# Altium schematic symbol library ISL6236A_DEMO.SchLib: 20 symbols (part 2 of 2)
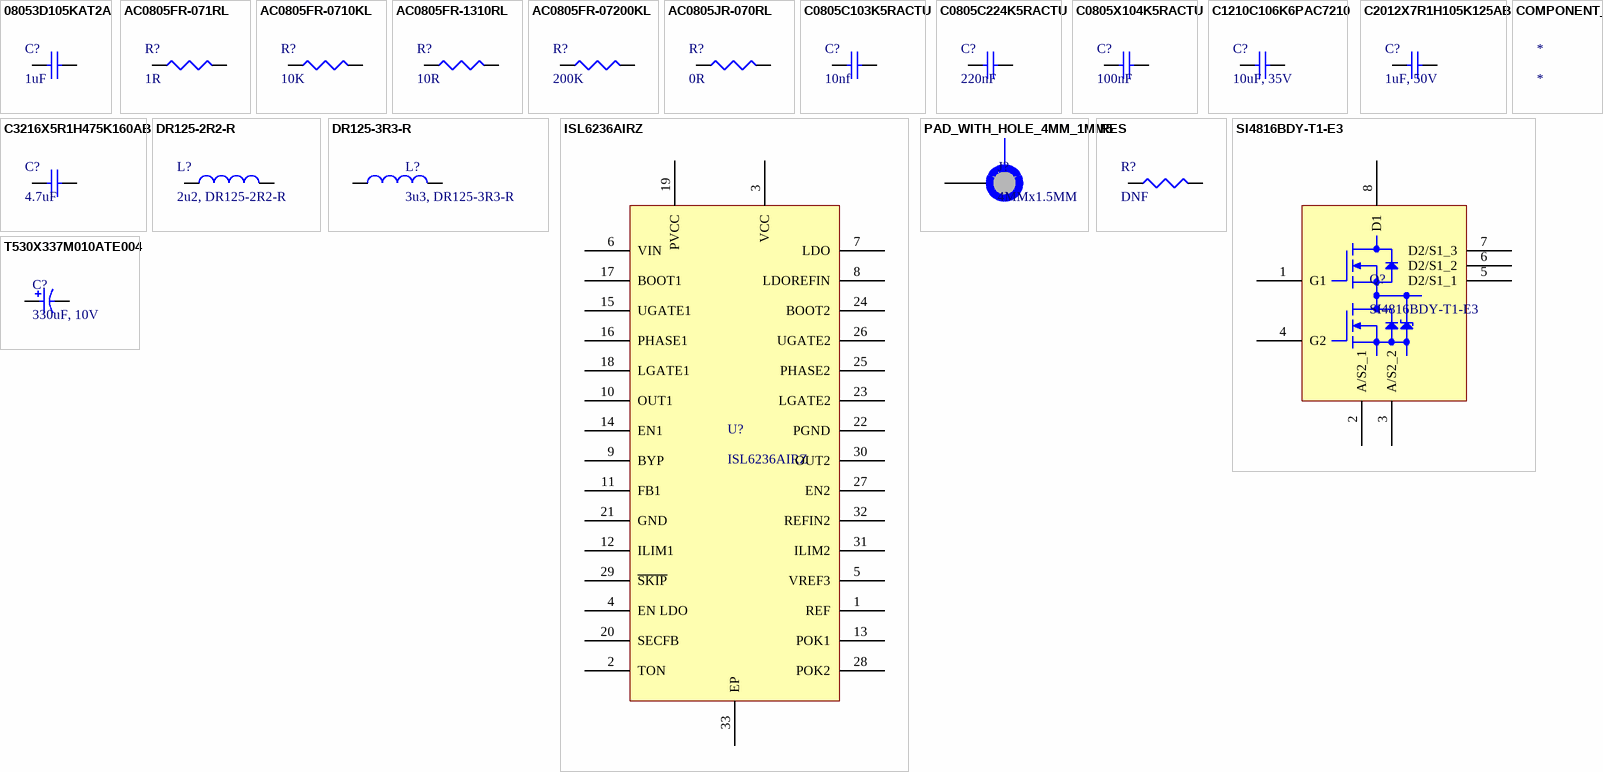
[diagram p1: symbols 08053D105KAT2A to T530X337M010ATE004]

## C0805C224K5RACTU
designator C?, comment 220nF
50V 220nF X7R ±10% 0805 Multilayer Ceramic Capacitors MLCC - SMD/SMT ROHS; Manufacturer: Yageo Group; Manufacturer Part Number: C0805C224K5RACTU; Dissipation Factor: 2.5%; Temperature Coefficient: 30ppm/°C; Supplier: DigiKey; Supplier Part Number: 399-C0805C224K5RACTUCT-ND; RoHS: Compliant; Category: Ceramic Capacitors; Stock: 396277; Pricing: 1=0.22, 10=0.127, 50=0.0906, 100=0.0795, 500=0.06094, 1000=0.05521 (USD); Value: 220nF; Case/Package: 0805; Case Code (Imperial): 0805; China RoHS: Compliant; Country of Origin: Mainland China, Taiwan; Depth: 1.25mm; Dielectric: X7R; Dielectric Material: Ceramic; Export Control Classification Number (ECCN) Code: EAR99; Height: 1.25mm; Harmonized Tariff Schedule (HTS) Code: 8532.24.00.20; Introduction Date: 2011-08-12; Lead Free: Lead Free; Lead Pitch: 750µm; Length: 2mm; Lifecycle Status: Production; Material: Ceramic; Max Operating Temperature: 125°C; Min Operating Temperature: -55°C; Mounting Technology: Surface Mount; Pins: 2; Number of Terminals: 2; Packaging: Cut Tape; Radiation Hardening: No; REACH SVHC: Yes; Schedule B: 8532240020, 8532240020|8532240020, 8532240020|8532240020|8532240020, 8532240020|8532240020|8532240020|8532240020; Termination: SMD/SMT; Thickness: 1.397mm; Tolerance: 10%; Voltage: 50V; Voltage Rating: 50V; Voltage Rating (DC): 50V; Width: 1.25mm; ComponentLink1URL: https://datasheet.octopart.com:443/C0805C224K5RACTU-KEMET-datasheet-178445679.pdf?src-supplier=IHS; ComponentLink1Description: https://datasheet.octopart.com:443/C0805C224K5RACTU-KEMET-datasheet-178445679.pdf?src-supplier=IHS; ComponentLink2URL: https://datasheet.octopart.com:443/C0805C224K5RAC7800-KEMET-datasheet-184793319.pdf?src-supplier=IHS; ComponentLink2Description: https://datasheet.octopart.com:443/C0805C224K5RAC7800-KEMET-datasheet-184793319.pdf?src-supplier=IHS; ComponentLink3URL: https://datasheet.octopart.com:443/C0805C224K5RACTU-Kemet-datasheet-5313890.pdf?src-supplier=Upverter; ComponentLink3Description: https://datasheet.octopart.com:443/C0805C224K5RACTU-Kemet-datasheet-5313890.pdf?src-supplier=Upverter; ComponentLink4URL: https://datasheet.octopart.com:443/C0805C224K5RACTU-KEMET-datasheet-68331921.pdf?src-supplier=Upverter; ComponentLink4Description: https://datasheet.octopart.com:443/C0805C224K5RACTU-KEMET-datasheet-68331921.pdf?src-supplier=Upverter; ComponentLink5URL: https://datasheet.octopart.com:443/C0805C224K5RACTU-KEMET-datasheet-137357759.pdf?src-supplier=Farnell; ComponentLink5Description: https://datasheet.octopart.com:443/C0805C224K5RACTU-KEMET-datasheet-137357759.pdf?src-supplier=Farnell; ComponentLink6URL: https://datasheet.octopart.com:443/C0805C224K5RACTU-Kemet-datasheet-12608295.pdf?src-supplier=Farnell; ComponentLink6Description: https://datasheet.octopart.com:443/C0805C224K5RACTU-Kemet-datasheet-12608295.pdf?src-supplier=Farnell; ComponentLink7URL: https://datasheet.octopart.com:443/C0805C224K5RACTU-Kemet-datasheet-11992184.pdf?src-supplier=Farnell; ComponentLink7Description: https://datasheet.octopart.com:443/C0805C224K5RACTU-Kemet-datasheet-11992184.pdf?src-supplier=Farnell; ComponentLink8URL: https://datasheet.octopart.com:443/C0805C224K5RACTU-Kemet-datasheet-10942409.pdf?src-supplier=Farnell; ComponentLink8Description: https://datasheet.octopart.com:443/C0805C224K5RACTU-Kemet-datasheet-10942409.pdf?src-supplier=Farnell; ComponentLink9URL: https://datasheet.octopart.com:443/C0805C224K5RACTU-Kemet-datasheet-10404442.pdf?src-supplier=Farnell; ComponentLink9Description: https://datasheet.octopart.com:443/C0805C224K5RACTU-Kemet-datasheet-10404442.pdf?src-supplier=Farnell; ComponentLink10URL: https://datasheet.octopart.com:443/C0805C224K5RACTU-KEMET-datasheet-101576247.pdf?src-supplier=Farnell; ComponentLink10Description: https://datasheet.octopart.com:443/C0805C224K5RACTU-KEMET-datasheet-101576247.pdf?src-supplier=Farnell; ComponentLink11URL: https://datasheet.octopart.com:443/C0805C224K5RACTU-KEMET-datasheet-176142328.pdf?src-supplier=Farnell; ComponentLink11Description: https://datasheet.octopart.com:443/C0805C224K5RACTU-KEMET-datasheet-176142328.pdf?src-supplier=Farnell; ComponentLink12URL: https://datasheet.octopart.com:443/C0805C224K5RACTU-Kemet-datasheet-503297.pdf?src-supplier=Farnell; ComponentLink12Description: https://datasheet.octopart.com:443/C0805C224K5RACTU-Kemet-datasheet-503297.pdf?src-supplier=Farnell; ComponentLink13URL: https://datasheet.octopart.com:443/C0805C224K5RACTU-KEMET-datasheet-32036385.pdf?src-supplier=Electro+Sonic; ComponentLink13Description: https://datasheet.octopart.com:443/C0805C224K5RACTU-KEMET-datasheet-32036385.pdf?src-supplier=Electro+Sonic; ComponentLink14URL: https://datasheet.octopart.com:443/C0805C224K5RACTU-KEMET-datasheet-176289652.pdf?src-supplier=Newark; ComponentLink14Description: https://datasheet.octopart.com:443/C0805C224K5RACTU-KEMET-datasheet-176289652.pdf?src-supplier=Newark; ComponentLink15URL: https://datasheet.octopart.com:443/C0805C224K5RACTU-KEMET-datasheet-130256537.pdf?src-supplier=Newark; ComponentLink15Description: https://datasheet.octopart.com:443/C0805C224K5RACTU-KEMET-datasheet-130256537.pdf?src-supplier=Newark; ComponentLink16URL: https://datasheet.octopart.com:443/C0805C224K5RACTU-Kemet-datasheet-8764837.pdf?src-supplier=Newark; ComponentLink16Description: https://datasheet.octopart.com:443/C0805C224K5RACTU-Kemet-datasheet-8764837.pdf?src-supplier=Newark; ComponentLink17URL: https://datasheet.octopart.com:443/C0805C224K5RACTU-Kemet-datasheet-8480123.pdf?src-supplier=Newark; ComponentLink17Description: https://datasheet.octopart.com:443/C0805C224K5RACTU-Kemet-datasheet-8480123.pdf?src-supplier=Newark; ComponentLink18URL: https://datasheet.octopart.com:443/C0805C224K5RACTU-Kemet-datasheet-5390537.pdf?src-supplier=Newark; ComponentLink18Description: https://datasheet.octopart.com:443/C0805C224K5RACTU-Kemet-datasheet-5390537.pdf?src-supplier=Newark; ComponentLink19URL: https://datasheet.octopart.com:443/C0805C224K5RACTU-Kemet-datasheet-5393970.pdf?src-supplier=Newark; ComponentLink19Description: https://datasheet.octopart.com:443/C0805C224K5RACTU-Kemet-datasheet-5393970.pdf?src-supplier=Newark; ComponentLink20URL: https://datasheet.octopart.com:443/C0805C224K5RACTU-Kemet-datasheet-8502025.pdf?src-supplier=Newark; ComponentLink20Description: https://datasheet.octopart.com:443/C0805C224K5RACTU-Kemet-datasheet-8502025.pdf?src-supplier=Newark; ComponentLink21URL: https://datasheet.octopart.com:443/C0805C224K5RACTU-Kemet-datasheet-7541751.pdf?src-supplier=Newark; ComponentLink21Description: https://datasheet.octopart.com:443/C0805C224K5RACTU-Kemet-datasheet-7541751.pdf?src-supplier=Newark; ComponentLink22URL: https://datasheet.octopart.com:443/C0805C224K5RACTU-Kemet-datasheet-161801.pdf?src-supplier=Newark; ComponentLink22Description: https://datasheet.octopart.com:443/C0805C224K5RACTU-Kemet-datasheet-161801.pdf?src-supplier=Newark; ComponentLink23URL: https://datasheet.octopart.com:443/C0805C224K5RACTU-KEMET-datasheet-164512540.pdf?src-supplier=TME; ComponentLink23Description: https://datasheet.octopart.com:443/C0805C224K5RACTU-KEMET-datasheet-164512540.pdf?src-supplier=TME; ComponentLink24URL: https://datasheet.octopart.com:443/C0805C224K5RACTU-KEMET-datasheet-68299312.pdf?src-supplier=TME; ComponentLink24Description: https://datasheet.octopart.com:443/C0805C224K5RACTU-KEMET-datasheet-68299312.pdf?src-supplier=TME; ComponentLink25URL: https://datasheet.octopart.com:443/C0805C224K5RACTU-KEMET-datasheet-68331906.pdf?src-supplier=TME; ComponentLink25Description: https://datasheet.octopart.com:443/C0805C224K5RACTU-KEMET-datasheet-68331906.pdf?src-supplier=TME; ComponentLink26URL: https://datasheet.octopart.com:443/C0805C224K5RAC7800-Kemet-datasheet-62098571.pdf?src-supplier=TME; ComponentLink26Description: https://datasheet.octopart.com:443/C0805C224K5RAC7800-Kemet-datasheet-62098571.pdf?src-supplier=TME; ComponentLink27URL: https://datasheet.octopart.com:443/C0805C224K5RAC7800-Kemet-datasheet-17577222.pdf?src-supplier=TME; ComponentLink27Description: https://datasheet.octopart.com:443/C0805C224K5RAC7800-Kemet-datasheet-17577222.pdf?src-supplier=TME; ComponentLink28URL: https://datasheet.octopart.com:443/C0805C224K5RACTU-KEMET-datasheet-110724412.pdf?src-supplier=RS+(Formerly+Allied+Electronics); ComponentLink28Description: https://datasheet.octopart.com:443/C0805C224K5RACTU-KEMET-datasheet-110724412.pdf?src-supplier=RS+(Formerly+Allied+Electronics); ComponentLink29URL: https://datasheet.octopart.com:443/C0805C224K5RACTU-Kemet-datasheet-464.pdf?src-supplier=RS+(Formerly+Allied+Electronics); ComponentLink29Description: https://datasheet.octopart.com:443/C0805C224K5RACTU-Kemet-datasheet-464.pdf?src-supplier=RS+(Formerly+Allied+Electronics); ComponentLink30URL: https://datasheet.octopart.com/C0805C224K5RACTU-KEMET-datasheet-84169754.pdf; ComponentLink30Description: https://datasheet.octopart.com/C0805C224K5RACTU-KEMET-datasheet-84169754.pdf; ComponentLink31URL: https://datasheet.octopart.com:443/C0805C224K5RACTU-Kemet-datasheet-22084244.pdf?src-supplier=element14+APAC; ComponentLink31Description: https://datasheet.octopart.com:443/C0805C224K5RACTU-Kemet-datasheet-22084244.pdf?src-supplier=element14+APAC; ComponentLink32URL: https://datasheet.octopart.com:443/C0805C224K5RACTU-Kemet-datasheet-11546808.pdf?src-supplier=Arrow+Electronics; ComponentLink32Description: https://datasheet.octopart.com:443/C0805C224K5RACTU-Kemet-datasheet-11546808.pdf?src-supplier=Arrow+Electronics; ComponentLink33URL: https://datasheet.octopart.com:443/C0805C224K5RAC7800-KEMET-datasheet-164857143.pdf?src-supplier=Burklin+Elektronik; ComponentLink33Description: https://datasheet.octopart.com:443/C0805C224K5RAC7800-KEMET-datasheet-164857143.pdf?src-supplier=Burklin+Elektronik; ComponentLink34URL: http://sigma.octopart.com:80/conflict_mineral_statement/Yageo-company-3.pdf?src-supplier=Compliance+Statements; ComponentLink34Description: http://sigma.octopart.com:80/conflict_mineral_statement/Yageo-company-3.pdf?src-supplier=Compliance+Statements; ComponentLink35URL: http://sigma.octopart.com:80/rohs_statement/Yageo-company-2.pdf?src-supplier=Compliance+Statements; ComponentLink35Description: http://sigma.octopart.com:80/rohs_statement/Yageo-company-2.pdf?src-supplier=Compliance+Statements
footprint C0805
pins: 1, 2

## C0805X104K5RACTU
designator C?, comment 100nF
Cap Ceramic 0.1uF 50V X7R 10% Pad SMD 0805 Flexible Termination 125C Automotive Medical T/R; Manufacturer: Yageo Group; Manufacturer Part Number: C0805X104K5RACTU; Manufacturer Package Identifier: 0805 (2012 metric); Dissipation Factor: 2.5%; Supplier: DigiKey; Supplier Part Number: 399-C0805X104K5RACTUCT-ND; RoHS: Compliant; Category: Ceramic Capacitors; Stock: 78001; Pricing: 1=0.37, 10=0.223, 50=0.1638, 100=0.1456, 500=0.11516, 1000=0.10575 (USD); Value: 100nF; Case/Package: 0805; Case Code (Imperial): 0805; Case Code (Metric): 2012; China RoHS: Compliant; Depth: 1.25mm; Dielectric: X7R; Dielectric Material: Ceramic; Export Control Classification Number (ECCN) Code: EAR99; Features: Soft Termination; Height: 780µm; Harmonized Tariff Schedule (HTS) Code: 8532.24.00.20; Introduction Date: 2016-01-11; Length: 2mm; Lifecycle Status: Production; Max Operating Temperature: 125°C; Min Operating Temperature: -55°C; Mounting Technology: Surface Mount; Pins: 2; Number of Terminals: 2; Packaging: Cut Tape; REACH SVHC: Yes; Schedule B: 8532240020, 8532240020|8532240020, 8532240020|8532240020|8532240020, 8532240020|8532240020|8532240020|8532240020; Termination: SMD/SMT; Thickness: 889µm; Tolerance: 10%; Voltage Rating: 50V; Voltage Rating (AC): 50V; Voltage Rating (DC): 50V; Width: 1.25mm; ComponentLink1URL: https://datasheet.octopart.com:443/C0805X104K5RACTU-KEMET-datasheet-182040354.pdf?src-supplier=IHS; ComponentLink1Description: https://datasheet.octopart.com:443/C0805X104K5RACTU-KEMET-datasheet-182040354.pdf?src-supplier=IHS; ComponentLink2URL: https://datasheet.octopart.com:443/C0805X104K5RACTU-Kemet-datasheet-498967.pdf?src-supplier=Newark; ComponentLink2Description: https://datasheet.octopart.com:443/C0805X104K5RACTU-Kemet-datasheet-498967.pdf?src-supplier=Newark; ComponentLink3URL: https://datasheet.octopart.com:443/C0805X104K5RACTU-Kemet-datasheet-8764837.pdf?src-supplier=Newark; ComponentLink3Description: https://datasheet.octopart.com:443/C0805X104K5RACTU-Kemet-datasheet-8764837.pdf?src-supplier=Newark; ComponentLink4URL: https://datasheet.octopart.com:443/C0805X104K5RACTU-Kemet-datasheet-8480123.pdf?src-supplier=Newark; ComponentLink4Description: https://datasheet.octopart.com:443/C0805X104K5RACTU-Kemet-datasheet-8480123.pdf?src-supplier=Newark; ComponentLink5URL: https://datasheet.octopart.com:443/C0805X104K5RACTU-Kemet-datasheet-5313890.pdf?src-supplier=Newark; ComponentLink5Description: https://datasheet.octopart.com:443/C0805X104K5RACTU-Kemet-datasheet-5313890.pdf?src-supplier=Newark; ComponentLink6URL: https://datasheet.octopart.com:443/C0805X104K5RACTU-Kemet-datasheet-5390537.pdf?src-supplier=Newark; ComponentLink6Description: https://datasheet.octopart.com:443/C0805X104K5RACTU-Kemet-datasheet-5390537.pdf?src-supplier=Newark; ComponentLink7URL: https://datasheet.octopart.com:443/C0805X104K5RACTU-Kemet-datasheet-5393970.pdf?src-supplier=Newark; ComponentLink7Description: https://datasheet.octopart.com:443/C0805X104K5RACTU-Kemet-datasheet-5393970.pdf?src-supplier=Newark; ComponentLink8URL: https://datasheet.octopart.com:443/C0805X104K5RACTU-Kemet-datasheet-8502025.pdf?src-supplier=Newark; ComponentLink8Description: https://datasheet.octopart.com:443/C0805X104K5RACTU-Kemet-datasheet-8502025.pdf?src-supplier=Newark; ComponentLink9URL: https://datasheet.octopart.com:443/C0805X104K5RACTU-Kemet-datasheet-7541751.pdf?src-supplier=Newark; ComponentLink9Description: https://datasheet.octopart.com:443/C0805X104K5RACTU-Kemet-datasheet-7541751.pdf?src-supplier=Newark; ComponentLink10URL: https://datasheet.octopart.com:443/C0805X104K5RACTU-Kemet-datasheet-161801.pdf?src-supplier=Newark; ComponentLink10Description: https://datasheet.octopart.com:443/C0805X104K5RACTU-Kemet-datasheet-161801.pdf?src-supplier=Newark; ComponentLink11URL: https://datasheet.octopart.com:443/C0805X104K5RACTU-KEMET-datasheet-176142390.pdf?src-supplier=Newark; ComponentLink11Description: https://datasheet.octopart.com:443/C0805X104K5RACTU-KEMET-datasheet-176142390.pdf?src-supplier=Newark; ComponentLink12URL: https://datasheet.octopart.com:443/C0805X104K5RACTU-KEMET-datasheet-181958278.pdf?src-supplier=Farnell; ComponentLink12Description: https://datasheet.octopart.com:443/C0805X104K5RACTU-KEMET-datasheet-181958278.pdf?src-supplier=Farnell; ComponentLink13URL: https://datasheet.octopart.com:443/C0805X104K5RACTU-KEMET-datasheet-181958277.pdf?src-supplier=Farnell; ComponentLink13Description: https://datasheet.octopart.com:443/C0805X104K5RACTU-KEMET-datasheet-181958277.pdf?src-supplier=Farnell; ComponentLink14URL: https://datasheet.octopart.com:443/C0805X104K5RACTU-KEMET-datasheet-101576457.pdf?src-supplier=Farnell; ComponentLink14Description: https://datasheet.octopart.com:443/C0805X104K5RACTU-KEMET-datasheet-101576457.pdf?src-supplier=Farnell; ComponentLink15URL: https://datasheet.octopart.com:443/C0805X104K5RACTU-KEMET-datasheet-175423158.pdf?src-supplier=Farnell; ComponentLink15Description: https://datasheet.octopart.com:443/C0805X104K5RACTU-KEMET-datasheet-175423158.pdf?src-supplier=Farnell; ComponentLink16URL: https://datasheet.octopart.com:443/C0805X104K5RACTU-Kemet-datasheet-66093367.pdf?src-supplier=element14+APAC; ComponentLink16Description: https://datasheet.octopart.com:443/C0805X104K5RACTU-Kemet-datasheet-66093367.pdf?src-supplier=element14+APAC; ComponentLink17URL: https://datasheet.octopart.com:443/C0805X104K5RACTU-KEMET-datasheet-81638493.pdf?src-supplier=element14+APAC; ComponentLink17Description: https://datasheet.octopart.com:443/C0805X104K5RACTU-KEMET-datasheet-81638493.pdf?src-supplier=element14+APAC; ComponentLink18URL: https://datasheet.octopart.com:443/C0805X104K5RACTU-Kemet-datasheet-67167355.pdf?src-supplier=element14+APAC; ComponentLink18Description: https://datasheet.octopart.com:443/C0805X104K5RACTU-Kemet-datasheet-67167355.pdf?src-supplier=element14+APAC; ComponentLink19URL: https://datasheet.octopart.com:443/C0805X104K5RACTU-KEMET-datasheet-192294609.pdf?src-supplier=element14+APAC; ComponentLink19Description: https://datasheet.octopart.com:443/C0805X104K5RACTU-KEMET-datasheet-192294609.pdf?src-supplier=element14+APAC; ComponentLink20URL: https://datasheet.octopart.com:443/C0805X104K5RACTU-KEMET-datasheet-142166354.pdf?src-supplier=Electro+Sonic; ComponentLink20Description: https://datasheet.octopart.com:443/C0805X104K5RACTU-KEMET-datasheet-142166354.pdf?src-supplier=Electro+Sonic; ComponentLink21URL: https://datasheet.octopart.com:443/C0805X104K5RACTU-KEMET-datasheet-68331963.pdf?src-supplier=TME; ComponentLink21Description: https://datasheet.octopart.com:443/C0805X104K5RACTU-KEMET-datasheet-68331963.pdf?src-supplier=TME; ComponentLink22URL: https://datasheet.octopart.com:443/C0805X104K5RACTU-KEMET-datasheet-68322508.pdf?src-supplier=TME; ComponentLink22Description: https://datasheet.octopart.com:443/C0805X104K5RACTU-KEMET-datasheet-68322508.pdf?src-supplier=TME; ComponentLink23URL: https://datasheet.octopart.com/C0805X104K5RACTU-KEMET-datasheet-84169754.pdf; ComponentLink23Description: https://datasheet.octopart.com/C0805X104K5RACTU-KEMET-datasheet-84169754.pdf; ComponentLink24URL: https://datasheet.octopart.com:443/C0805X104K5RACTU-Kemet-datasheet-8837965.pdf?src-supplier=element14; ComponentLink24Description: https://datasheet.octopart.com:443/C0805X104K5RACTU-Kemet-datasheet-8837965.pdf?src-supplier=element14
footprint C0805
pins: 1, 2

## C1210C106K6PAC7210
designator C?, comment 10uF, 35V
Ceramic Capacitor, Multilayer, Ceramic, 35V, 10% +Tol, 10% -Tol, X5R, 15% TC, 10uF, Surface Mount, 1210; Manufacturer: Yageo Group; Manufacturer Part Number: C1210C106K6PAC7210; Value: 10µF; Supplier: DigiKey; Supplier Part Number: 399-C1210C106K6PAC7210CT-ND; RoHS: Compliant; Category: Ceramic Capacitors; Stock: 7885; Pricing: 1=0.82, 10=0.514, 50=0.3946, 100=0.3578, 500=0.29584, 1000=0.27668 (USD); Case/Package: 1210; China RoHS: Compliant; Country of Origin: Mexico; Dielectric: X5R; Dielectric Material: Ceramic; Export Control Classification Number (ECCN) Code: EAR99; Height: 1.9mm; Harmonized Tariff Schedule (HTS) Code: 8532.24.00.20; Introduction Date: 2016-03-30; Lead Free: Lead Free; Length: 3.2mm; Lifecycle Status: Production; Max Operating Temperature: 85°C; Min Operating Temperature: -55°C; Mounting Technology: Surface Mount; Number of Terminals: 2; REACH SVHC: Yes; Tolerance: 10%; Voltage Rating (DC): 35V; Width: 2.5mm; ComponentLink1URL: https://datasheet.octopart.com:443/C1210C106K6PAC7210-KEMET-datasheet-178499189.pdf?src-supplier=IHS; ComponentLink1Description: https://datasheet.octopart.com:443/C1210C106K6PAC7210-KEMET-datasheet-178499189.pdf?src-supplier=IHS; ComponentLink2URL: https://datasheet.octopart.com/C1210C106K6PAC7210-KEMET-datasheet-84169754.pdf; ComponentLink2Description: https://datasheet.octopart.com/C1210C106K6PAC7210-KEMET-datasheet-84169754.pdf
pins: 1, 2

## C2012X7R1H105K125AB
designator C?, comment 1uF, 50V
C Series 0805 1 uF 50 V ±10% Tolerance X7R SMT Multilayer Ceramic Capacitor; Manufacturer: TDK; Manufacturer Part Number: C2012X7R1H105K125AB; Manufacturer Lifecycle Status: PRODUCTION; Manufacturer Package Identifier: 0805 (2012 metric); Value: 1µF; Supplier: DigiKey; Supplier Part Number: 445-7547-1-ND; RoHS: Compliant; Category: Ceramic Capacitors; Stock: 33882; Pricing: 1=0.27, 10=0.158, 50=0.1146, 100=0.1011, 500=0.07844, 1000=0.07145 (USD); Case/Package: 0805; Case Code (Imperial): 0805; Case Code (Metric): 2012; China RoHS: Compliant; Composition: Ceramic; Depth: 1.25mm; Dielectric: X7R; Dielectric Material: Ceramic; Height: 1.25mm; Lead Free: Lead Free; Length: 2mm; Lifecycle Status: Production; Material: Ceramic; Max Length: 2.2mm; Max Operating Temperature: 125°C; Max Width: 1.45mm; Min Length: 1.8mm; Min Operating Temperature: -55°C; Min Width: 1.05mm; Mounting Technology: Surface Mount; Pins: 2; Number of Terminals: 2; Radiation Hardening: No; REACH SVHC: Yes; Schedule B: 8532240020, 8532240020|8532240020|8532240020|8532240020|8532240020; Termination: SMD/SMT; Tolerance: 10%; Voltage Rating: 50V; Voltage Rating (DC): 50V; Weight: 5.499807mg; Width: 1.25mm; ComponentLink1URL: https://datasheet.octopart.com:443/C2012X7R1H105K125AB-TDK-datasheet-175423548.pdf?src-supplier=TME; ComponentLink1Description: https://datasheet.octopart.com:443/C2012X7R1H105K125AB-TDK-datasheet-175423548.pdf?src-supplier=TME; ComponentLink2URL: https://datasheet.octopart.com:443/C2012X7R1H105K125AB-TDK-datasheet-182135025.pdf?src-supplier=TME; ComponentLink2Description: https://datasheet.octopart.com:443/C2012X7R1H105K125AB-TDK-datasheet-182135025.pdf?src-supplier=TME; ComponentLink3URL: https://datasheet.octopart.com:443/C2012X7R1H105K125AB-TDK-datasheet-159617022.pdf?src-supplier=TME; ComponentLink3Description: https://datasheet.octopart.com:443/C2012X7R1H105K125AB-TDK-datasheet-159617022.pdf?src-supplier=TME; ComponentLink4URL: https://datasheet.octopart.com:443/C2012X7R1H105K125AB-TDK-datasheet-151546523.pdf?src-supplier=ODG+(Origin+Data+Global); ComponentLink4Description: https://datasheet.octopart.com:443/C2012X7R1H105K125AB-TDK-datasheet-151546523.pdf?src-supplier=ODG+(Origin+Data+Global); ComponentLink5URL: https://datasheet.octopart.com/C2012X7R1H105K125AB-TDK-datasheet-41194876.pdf; ComponentLink5Description: https://datasheet.octopart.com/C2012X7R1H105K125AB-TDK-datasheet-41194876.pdf; ComponentLink6URL: https://datasheet.octopart.com:443/C2012X7R1H105K125AB-TDK-datasheet-82475248.pdf?src-supplier=Newark; ComponentLink6Description: https://datasheet.octopart.com:443/C2012X7R1H105K125AB-TDK-datasheet-82475248.pdf?src-supplier=Newark; ComponentLink7URL: https://datasheet.octopart.com:443/C2012X7R1H105K125AB-TDK-datasheet-23766614.pdf?src-supplier=Newark; ComponentLink7Description: https://datasheet.octopart.com:443/C2012X7R1H105K125AB-TDK-datasheet-23766614.pdf?src-supplier=Newark; ComponentLink8URL: https://datasheet.octopart.com:443/C2012X7R1H105K125AB-TDK-datasheet-13444418.pdf?src-supplier=Newark; ComponentLink8Description: https://datasheet.octopart.com:443/C2012X7R1H105K125AB-TDK-datasheet-13444418.pdf?src-supplier=Newark; ComponentLink9URL: https://datasheet.octopart.com:443/C2012X7R1H105K125AB-TDK-datasheet-13376850.pdf?src-supplier=Newark; ComponentLink9Description: https://datasheet.octopart.com:443/C2012X7R1H105K125AB-TDK-datasheet-13376850.pdf?src-supplier=Newark; ComponentLink10URL: https://datasheet.octopart.com:443/C2012X7R1H105K125AB-TDK-datasheet-10978788.pdf?src-supplier=Newark; ComponentLink10Description: https://datasheet.octopart.com:443/C2012X7R1H105K125AB-TDK-datasheet-10978788.pdf?src-supplier=Newark; ComponentLink11URL: https://datasheet.octopart.com:443/C2012X7R1H105K125AB-TDK-datasheet-43729314.pdf?src-supplier=Electro+Sonic; ComponentLink11Description: https://datasheet.octopart.com:443/C2012X7R1H105K125AB-TDK-datasheet-43729314.pdf?src-supplier=Electro+Sonic; ComponentLink12URL: https://datasheet.octopart.com:443/C2012X7R1H105K125AB-TDK-datasheet-10921857.pdf?src-supplier=Future+Electronics; ComponentLink12Description: https://datasheet.octopart.com:443/C2012X7R1H105K125AB-TDK-datasheet-10921857.pdf?src-supplier=Future+Electronics
footprint C0805
pins: 1, 2

## C3216X5R1H475K160AB
designator C?, comment 4.7uF
C Series 1206 4.7 uF 50 V ±10 % Tolerance X5R SMT Multilayer Ceramic Capacitor; Manufacturer: TDK; Manufacturer Part Number: C3216X5R1H475K160AB; Manufacturer Lifecycle Status: PRODUCTION (NOT RECOMMENDED FOR NEW DESIGN); Value: 4.7µF; Tolerance: 10%; Voltage Rating: 50V; Supplier: DigiKey; Supplier Part Number: 445-5994-1-ND; RoHS: Compliant; Category: Ceramic Capacitors; Stock: 28419; Pricing: 1=0.82, 10=0.514, 50=0.3948, 100=0.358, 500=0.29602, 1000=0.27684 (USD); Case/Package: 1206; Case Code (Imperial): 1206; Case Code (Metric): 3216; China RoHS: Compliant; Composition: Ceramic; Depth: 1.6mm; Dielectric: X5R; Dielectric Material: Ceramic; Export Control Classification Number (ECCN) Code: EAR99; Height: 1.6mm; Harmonized Tariff Schedule (HTS) Code: 8532.24.00.20; Introduction Date: 2012-08-21; Lead Free: Lead Free; Length: 3.2mm; Lifecycle Status: NRND; Material: Ceramic; Max Length: 3.4mm; Max Operating Temperature: 85°C; Max Width: 1.8mm; Min Length: 3mm; Min Operating Temperature: -55°C; Min Width: 1.4mm; Mounting Technology: Surface Mount; Number of Terminals: 2; Packaging: Digi-Reel®; REACH SVHC: Yes; Schedule B: 8532240020, 8532240020|8532240020|8532240020|8532240020|8532240020; Termination: SMD/SMT; Voltage Rating (DC): 50V; Weight: 16.187578mg; Width: 1.6mm; ComponentLink1URL: https://datasheet.octopart.com:443/C3216X5R1H475K160AB-TDK-datasheet-175423548.pdf?src-supplier=IHS; ComponentLink1Description: https://datasheet.octopart.com:443/C3216X5R1H475K160AB-TDK-datasheet-175423548.pdf?src-supplier=IHS; ComponentLink2URL: https://datasheet.octopart.com:443/C3216X5R1H475K160AB-TDK-datasheet-151546523.pdf?src-supplier=TDK; ComponentLink2Description: https://datasheet.octopart.com:443/C3216X5R1H475K160AB-TDK-datasheet-151546523.pdf?src-supplier=TDK; ComponentLink3URL: https://datasheet.octopart.com/C3216X5R1H475K160AB-TDK-datasheet-41194876.pdf; ComponentLink3Description: https://datasheet.octopart.com/C3216X5R1H475K160AB-TDK-datasheet-41194876.pdf; ComponentLink4URL: https://datasheet.octopart.com:443/C3216X5R1H475K160AB-TDK-datasheet-10921857.pdf?src-supplier=Future+Electronics; ComponentLink4Description: https://datasheet.octopart.com:443/C3216X5R1H475K160AB-TDK-datasheet-10921857.pdf?src-supplier=Future+Electronics
pins: 1, 2

## COMPONENT_1
designator *

## DR125-2R2-R
designator L?, comment 2u2, DR125-2R2-R
Inductor Power Shielded Drum Core 2.2uH 20% 100KHz Ferrite 10.9A 4.5mOhm DCR T/R; Manufacturer: Eaton; DC Resistance (DCR): 4.5mΩ; Value: 2.2µH; Number of Circuits: 1; Saturation Current: 15A; Supplier: DigiKey; Supplier Part Number: 513-1662-1-ND; Manufacturer Part Number: DR125-2R2-R; RoHS: Compliant; Category: Fixed Inductors; Stock: 226; Pricing: 1=0.83, 10=0.685, 100=0.563 (USD); Case/Package: Nonstandard; China RoHS: Compliant; Composition: Wirewound; Core Material: Ferrite; Country of Origin: Philippines; Current Rating: 10.9A; DC Current: 10.9A; Depth: 12.5mm; Export Control Classification Number (ECCN) Code: EAR99; Height: 6mm; Height - Seated (Max): 5.9944mm; Harmonized Tariff Schedule (HTS) Code: 8504.50.80.00; Inductance Tolerance: 20%; Introduction Date: 2005-07-20; Lead Free: Lead Free; Length: 12.5mm; Lifecycle Status: Production; Max Current Rating: 10.9A; Max DC Current: 10.9A; Max Operating Temperature: 125°C; Military Standard: Not; Min Operating Temperature: -40°C; Mounting Technology: Surface Mount; Pins: 2; Number of Terminals: 2; Packaging: Cut Tape; Radiation Hardening: No; REACH SVHC: No; RMS Current (Irms): 10.9A; Self Resonant Frequency: 100kHz; Shielding: Shielded; Termination: SMD/SMT; Test Frequency: 100kHz; Tolerance: 20%; Weight: 4.082331g; Width: 12.5mm; ComponentLink1URL: https://datasheet.octopart.com:443/DR125-2R2-R-Eaton-datasheet-129252529.pdf?src-supplier=Electro+Sonic; ComponentLink1Description: https://datasheet.octopart.com:443/DR125-2R2-R-Eaton-datasheet-129252529.pdf?src-supplier=Electro+Sonic; ComponentLink2URL: https://datasheet.octopart.com:443/DR125-2R2-R-Eaton-datasheet-41175520.pdf?src-supplier=Master+Electronics; ComponentLink2Description: https://datasheet.octopart.com:443/DR125-2R2-R-Eaton-datasheet-41175520.pdf?src-supplier=Master+Electronics; ComponentLink3URL: https://datasheet.octopart.com:443/DR125-2R2-R-Coiltronics-datasheet-8612520.pdf?src-supplier=IHS; ComponentLink3Description: https://datasheet.octopart.com:443/DR125-2R2-R-Coiltronics-datasheet-8612520.pdf?src-supplier=IHS; ComponentLink4URL: https://datasheet.octopart.com:443/DR125-2R2-R-Eaton-datasheet-552538.pdf?src-supplier=Newark; ComponentLink4Description: https://datasheet.octopart.com:443/DR125-2R2-R-Eaton-datasheet-552538.pdf?src-supplier=Newark; ComponentLink5URL: https://datasheet.octopart.com:443/DR125-2R2-R-Coiltronics-datasheet-3395.pdf?src-supplier=Factory+Futures; ComponentLink5Description: https://datasheet.octopart.com:443/DR125-2R2-R-Coiltronics-datasheet-3395.pdf?src-supplier=Factory+Futures; ComponentLink6URL: https://datasheet.octopart.com:443/DR125-2R2-R-Eaton-datasheet-37490916.pdf?src-supplier=RS+(Formerly+Allied+Electronics); ComponentLink6Description: https://datasheet.octopart.com:443/DR125-2R2-R-Eaton-datasheet-37490916.pdf?src-supplier=RS+(Formerly+Allied+Electronics); ComponentLink7URL: https://datasheet.octopart.com:443/DR125-2R2-R-Coiltronics-datasheet-119352.pdf?src-supplier=DigiKey; ComponentLink7Description: https://datasheet.octopart.com:443/DR125-2R2-R-Coiltronics-datasheet-119352.pdf?src-supplier=DigiKey
pins: 1, 2

## DR125-3R3-R
designator L?, comment 3u3, DR125-3R3-R
Inductor Power Shielded Drum Core 3.3uH 20% 100KHz Ferrite 9.26A 6.3mOhm DCR T/R; Manufacturer: Eaton; DC Resistance (DCR): 6.3mΩ; Value: 3.3µH; Number of Circuits: 1; Saturation Current: 12.7A; Supplier: DigiKey; Supplier Part Number: 513-1529-1-ND; Manufacturer Part Number: DR125-3R3-R; RoHS: Compliant; Category: Fixed Inductors; Stock: 12331; Pricing: 1=0.98, 10=0.803, 100=0.6606 (USD); Case/Package: 0125; Composition: Wirewound; Core Material: Ferrite; Country of Origin: Philippines; Current Rating: 9.26A; Depth: 12.5mm; Export Control Classification Number (ECCN) Code: EAR99; Height: 6mm; Height - Seated (Max): 5.9944mm; Harmonized Tariff Schedule (HTS) Code: 8504.50.80.00; Inductance Tolerance: 20%; Introduction Date: 2005-07-20; Lead Free: Lead Free; Length: 12.5mm; Lifecycle Status: Production; Max Current Rating: 9.26A; Max DC Current: 9.26A; Max Operating Temperature: 125°C; Military Standard: Not; Min Operating Temperature: -40°C; Mounting Technology: Surface Mount; Pins: 2; Number of Terminals: 2; Radiation Hardening: No; REACH SVHC: No; RMS Current (Irms): 9.26A; Schedule B: 8504500000, 8504500000|8504500000|8504500000|8504500000|8504500000|8504500000|8504500000|8504500000|8504500000|8504500000|8504500000|8504500000|8504500000|8504500000|8504500000|8504500000|8504500000|8504500000|8504500000|8504500000|8504500000|8504500000|8504500000|85; Self Resonant Frequency: 100kHz; Shielding: Shielded; Termination: SMD/SMT; Test Frequency: 100kHz; Tolerance: 20%; Weight: 4.082331g; Width: 12.5mm; ComponentLink1URL: https://datasheet.octopart.com:443/DR125-3R3-R-Eaton-datasheet-129252529.pdf?src-supplier=Electro+Sonic; ComponentLink1Description: https://datasheet.octopart.com:443/DR125-3R3-R-Eaton-datasheet-129252529.pdf?src-supplier=Electro+Sonic; ComponentLink2URL: https://datasheet.octopart.com:443/DR125-3R3-R-Eaton-datasheet-41175520.pdf?src-supplier=Master+Electronics; ComponentLink2Description: https://datasheet.octopart.com:443/DR125-3R3-R-Eaton-datasheet-41175520.pdf?src-supplier=Master+Electronics; ComponentLink3URL: https://datasheet.octopart.com:443/DR125-3R3-R-Coiltronics-datasheet-8612520.pdf?src-supplier=IHS; ComponentLink3Description: https://datasheet.octopart.com:443/DR125-3R3-R-Coiltronics-datasheet-8612520.pdf?src-supplier=IHS; ComponentLink4URL: https://datasheet.octopart.com:443/DR125-3R3-R-Eaton-datasheet-552538.pdf?src-supplier=Newark; ComponentLink4Description: https://datasheet.octopart.com:443/DR125-3R3-R-Eaton-datasheet-552538.pdf?src-supplier=Newark; ComponentLink5URL: https://datasheet.octopart.com:443/DR125-3R3-R-Coiltronics-datasheet-3395.pdf?src-supplier=Factory+Futures; ComponentLink5Description: https://datasheet.octopart.com:443/DR125-3R3-R-Coiltronics-datasheet-3395.pdf?src-supplier=Factory+Futures; ComponentLink6URL: https://datasheet.octopart.com:443/DR125-3R3-R-Eaton-datasheet-37490916.pdf?src-supplier=RS+(Formerly+Allied+Electronics); ComponentLink6Description: https://datasheet.octopart.com:443/DR125-3R3-R-Eaton-datasheet-37490916.pdf?src-supplier=RS+(Formerly+Allied+Electronics); ComponentLink7URL: https://datasheet.octopart.com:443/DR125-3R3-R-Coiltronics-datasheet-119352.pdf?src-supplier=DigiKey; ComponentLink7Description: https://datasheet.octopart.com:443/DR125-3R3-R-Coiltronics-datasheet-119352.pdf?src-supplier=DigiKey
pins: 1, 2

## ISL6236AIRZ
designator U?
Soft Sw PWM Cntrlr 2-OUT Power Supply Controller 200KHz/300KHz/400KHz/500KHz 32-Pin QFN EP; Manufacturer: Renesas; Manufacturer Lifecycle Status: OBSOLETE; Efficiency: 97%; Frequency: 500kHz; Max Supply Voltage: 25V; Max Junction Temperature (Tj): 150°C; Max Output current: 3.3A; Min Input Voltage: 5.5V; Min Supply Voltage: 4.5V; Min Switching Frequency: 25kHz; Nominal Supply Voltage: 12V; Nominal Output Voltage: 1.05V; Number of Circuits: 1; Number of Outputs: 2; Output Current: 20A; Pitch: 500µm; Switching Frequency: 37kHz; Topology: Buck, Push-Pull; Supplier: DigiKey; Supplier Part Number: ISL6236AIRZ-ND; Manufacturer Part Number: ISL6236AIRZ; RoHS: Compliant; Category: Voltage Regulators - Switching; Stock: 709; Pricing: 1=7.16, 10=5.332, 25=4.8928, 100=4.417, 490=4.0622 (USD); Case/Package: QFN; Country of Origin: Taiwan; Export Control Classification Number (ECCN) Code: EAR99; Part Family: ISL6236A; Height: 900µm; Height - Seated (Max): 1mm; Harmonized Tariff Schedule (HTS) Code: 8542.39.00.60; Introduction Date: 2017-11-10; Lead Free: Lead Free; Length: 5mm; Lifecycle Status: Obsolete; LTB Date: 2025-09-04; LTD Date: 2026-03-04; Max Operating Temperature: 100°C; Max Switching Frequency: 500kHz; Min Operating Temperature: -40°C; MSL: 3; Mounting Technology: Surface Mount; Pins: 32; Number of Terminals: 32; Output Voltage: 5.5V; Radiation Hardening: No; REACH SVHC: Yes; Temperature Grade: Industrial; Terminal Pitch: 500µm; Width: 5mm; ComponentLink1URL: https://datasheet.octopart.com:443/ISL6236AIRZ-Renesas-datasheet-149187364.pdf?src-supplier=Integrated+Device+Technology; ComponentLink1Description: https://datasheet.octopart.com:443/ISL6236AIRZ-Renesas-datasheet-149187364.pdf?src-supplier=Integrated+Device+Technology; ComponentLink2URL: https://datasheet.octopart.com:443/ISL6236AIRZ-Renesas-datasheet-179182849.pdf?src-supplier=Integrated+Device+Technology; ComponentLink2Description: https://datasheet.octopart.com:443/ISL6236AIRZ-Renesas-datasheet-179182849.pdf?src-supplier=Integrated+Device+Technology; ComponentLink3URL: https://datasheet.octopart.com:443/ISL6236AIRZ-Renesas-datasheet-14388266.pdf?src-supplier=IHS; ComponentLink3Description: https://datasheet.octopart.com:443/ISL6236AIRZ-Renesas-datasheet-14388266.pdf?src-supplier=IHS; ComponentLink4URL: https://datasheet.octopart.com:443/ISL6236AIRZ-Renesas-datasheet-138160199.pdf?src-supplier=Future+Electronics; ComponentLink4Description: https://datasheet.octopart.com:443/ISL6236AIRZ-Renesas-datasheet-138160199.pdf?src-supplier=Future+Electronics; ComponentLink5URL: https://datasheet.octopart.com:443/ISL6236AIRZ-Intersil-datasheet-158443858.pdf?src-supplier=Augswan; ComponentLink5Description: https://datasheet.octopart.com:443/ISL6236AIRZ-Intersil-datasheet-158443858.pdf?src-supplier=Augswan; ComponentLink6URL: http://sigma.octopart.com:80/reach_statement/Renesas-company-45.pdf?src-supplier=Compliance+Statements; ComponentLink6Description: http://sigma.octopart.com:80/reach_statement/Renesas-company-45.pdf?src-supplier=Compliance+Statements; ComponentLink7URL: http://sigma.octopart.com:80/conflict_mineral_statement/Renesas-company-44.pdf?src-supplier=Compliance+Statements; ComponentLink7Description: http://sigma.octopart.com:80/conflict_mineral_statement/Renesas-company-44.pdf?src-supplier=Compliance+Statements
pins: 1 REF, 2 TON, 3 VCC, 4 EN LDO, 5 VREF3, 6 VIN, 7 LDO, 8 LDOREFIN, 9 BYP, 10 OUT1, 11 FB1, 12 ILIM1, 13 POK1, 14 EN1, 15 UGATE1, 16 PHASE1, 17 BOOT1, 18 LGATE1, 19 PVCC, 20 SECFB, 21 GND, 22 PGND, 23 LGATE2, 24 BOOT2, 25 PHASE2, 26 UGATE2, 27 EN2, 28 POK2, 29 ~{SKIP}, 30 OUT2, 31 ILIM2, 32 REFIN2, 33 EP

## PAD_WITH_HOLE_4MM_1MM5
designator J?, comment 4MMx1.5MM
pad with a hole 4mm x 1.5mm
pins: 1

## RES
designator R?, comment DNF
pins: 1, 2

## SI4816BDY-T1-E3
designator Q?
Transistor MOSFET Array Dual N-CH 30V 5.8A/8.2A 8-Pin SOIC T/R; Manufacturer: Vishay; Continuous Drain Current (ID): 5.8A; Drain to Source Resistance: 18.5mΩ; Element Configuration: Single; Fall Time: 9ns; Gate to Source Voltage (Vgs): 20V; Max Junction Temperature (Tj): 150°C; Max Power Dissipation: 1W; Nominal Vgs: 3V; Number of Channels: 2; Value: 18.5mΩ; Threshold Voltage: 1V; Turn-Off Delay Time: 31ns; Turn-On Delay Time: 13ns; Supplier: DigiKey; Supplier Part Number: SI4816BDY-T1-E3CT-ND; Manufacturer Part Number: SI4816BDY-T1-E3; RoHS: Compliant; Category: MOSFETs; Stock: 2831; Pricing: 1=2.53, 10=1.627, 100=1.1094, 500=0.88782, 1000=0.81657 (USD); Case/Package: SO; China RoHS: Compliant; Drain to Source Voltage (Vdss): 30V; Export Control Classification Number (ECCN) Code: EAR99; Height: 1.75mm; Introduction Date: 2004-10-28; Lead Free: Lead Free; Length: 5mm; Lifecycle Status: Production; Max Operating Temperature: 150°C; Min Breakdown Voltage: 30V; Min Operating Temperature: -55°C; Mounting Technology: Surface Mount; Number of Elements: 2; Pins: 8; Number of Terminals: 8; Radiation Hardening: No; Rds On Max: 18.5mΩ; REACH SVHC: Yes; Rise Time: 9ns; Schedule B: 8541290080, 8541290080|8541290080|8541290080|8541290080|8541290080; Weight: 186.993455mg; Width: 4mm; ComponentLink1URL: https://datasheet.octopart.com:443/SI4816BDY-T1-E3-Vishay-datasheet-181471835.pdf?src-supplier=Farnell; ComponentLink1Description: https://datasheet.octopart.com:443/SI4816BDY-T1-E3-Vishay-datasheet-181471835.pdf?src-supplier=Farnell; ComponentLink2URL: https://datasheet.octopart.com:443/SI4816BDY-T1-E3-Vishay-datasheet-8703106.pdf?src-supplier=element14+APAC; ComponentLink2Description: https://datasheet.octopart.com:443/SI4816BDY-T1-E3-Vishay-datasheet-8703106.pdf?src-supplier=element14+APAC; ComponentLink3URL: https://datasheet.octopart.com:443/SI4816BDY-T1-E3-Vishay-datasheet-11047461.pdf?src-supplier=element14+APAC; ComponentLink3Description: https://datasheet.octopart.com:443/SI4816BDY-T1-E3-Vishay-datasheet-11047461.pdf?src-supplier=element14+APAC; ComponentLink4URL: https://datasheet.octopart.com:443/SI4816BDY-T1-E3-Vishay-datasheet-8332786.pdf?src-supplier=element14+APAC; ComponentLink4Description: https://datasheet.octopart.com:443/SI4816BDY-T1-E3-Vishay-datasheet-8332786.pdf?src-supplier=element14+APAC; ComponentLink5URL: https://datasheet.octopart.com:443/SI4816BDY-T1-E3-Vishay-datasheet-31978687.pdf?src-supplier=element14+APAC; ComponentLink5Description: https://datasheet.octopart.com:443/SI4816BDY-T1-E3-Vishay-datasheet-31978687.pdf?src-supplier=element14+APAC; ComponentLink6URL: https://datasheet.octopart.com:443/SI4816BDY-T1-E3-Vishay-datasheet-181482347.pdf?src-supplier=IHS; ComponentLink6Description: https://datasheet.octopart.com:443/SI4816BDY-T1-E3-Vishay-datasheet-181482347.pdf?src-supplier=IHS; ComponentLink7URL: https://datasheet.octopart.com:443/SI4816BDY-T1-E3-Vishay-datasheet-62318721.pdf?src-supplier=Newark; ComponentLink7Description: https://datasheet.octopart.com:443/SI4816BDY-T1-E3-Vishay-datasheet-62318721.pdf?src-supplier=Newark; ComponentLink8URL: https://datasheet.octopart.com:443/SI4816BDY-T1-E3-Vishay-datasheet-41341409.pdf?src-supplier=Newark; ComponentLink8Description: https://datasheet.octopart.com:443/SI4816BDY-T1-E3-Vishay-datasheet-41341409.pdf?src-supplier=Newark; ComponentLink9URL: https://datasheet.octopart.com:443/SI4816BDY-T1-E3-Vishay-datasheet-141196160.pdf?src-supplier=TME; ComponentLink9Description: https://datasheet.octopart.com:443/SI4816BDY-T1-E3-Vishay-datasheet-141196160.pdf?src-supplier=TME; ComponentLink10URL: https://datasheet.octopart.com:443/SI4816BDY-T1-E3-Vishay-datasheet-14187004.pdf?src-supplier=iiiC; ComponentLink10Description: https://datasheet.octopart.com:443/SI4816BDY-T1-E3-Vishay-datasheet-14187004.pdf?src-supplier=iiiC; ComponentLink11URL: https://datasheet.octopart.com:443/SI4816BDY-T1-E3-Vishay-datasheet-11890201.pdf?src-supplier=Arrow+Electronics; ComponentLink11Description: https://datasheet.octopart.com:443/SI4816BDY-T1-E3-Vishay-datasheet-11890201.pdf?src-supplier=Arrow+Electronics; ComponentLink12URL: http://sigma.octopart.com:80/rohs_statement/Vishay-company-15.pdf?src-supplier=Compliance+Statements; ComponentLink12Description: http://sigma.octopart.com:80/rohs_statement/Vishay-company-15.pdf?src-supplier=Compliance+Statements
pins: 1 G1, 2 A/S2_1, 3 A/S2_2, 4 G2, 5 D2/S1_1, 6 D2/S1_2, 7 D2/S1_3, 8 D1

## T530X337M010ATE004
designator C?, comment 330uF, 10V
Cap Tant Solid 330uF 10V X CASE 20% (7.3 X 4.3 X 4mm) SMD 7343-43 T/R; Manufacturer: Yageo Group; Manufacturer Part Number: T530X337M010ATE004; Value: 330µF; Dissipation Factor: 8%; ESR (Equivalent Series Resistance): 4mΩ; Leakage Current: 330µA; Life (Hours): 2000hours; Polarity: Polar; Ripple Current: 2.05A; Supplier: DigiKey; Supplier Part Number: 399-10378-1-ND; RoHS: Compliant; Category: Tantalum Capacitors; Stock: 14063; Pricing: 1=9.26, 10=6.976, 50=6.0632, 100=5.7807 (USD); Case/Package: 2917; Case Code (Imperial): 2917; Case Code (Metric): 7343; China RoHS: Compliant; Depth: 4.3mm; Features: General Purpose; Height: 4mm; Height - Seated (Max): 4.2926mm; Length: 7.3mm; Lifecycle Status: Production; Max Operating Temperature: 125°C; Min Operating Temperature: -55°C; Mounting Technology: Surface Mount; Number of Terminals: 2; Packaging: Cut Tape; REACH SVHC: Yes; Schedule B: 8532210050, 8532210050|8532210050|8532210050|8532210050|8532210050; Termination: SMD/SMT; Tolerance: 20%; Voltage: 10V; Voltage Rating: 10V; Voltage Rating (DC): 10V; Width: 4.3mm; ComponentLink1URL: https://datasheet.octopart.com:443/T530X337M010ATE004-KEMET-datasheet-182062996.pdf?src-supplier=IHS; ComponentLink1Description: https://datasheet.octopart.com:443/T530X337M010ATE004-KEMET-datasheet-182062996.pdf?src-supplier=IHS; ComponentLink2URL: https://datasheet.octopart.com:443/T530X337M010ATE004-KEMET-datasheet-137404858.pdf?src-supplier=Upverter; ComponentLink2Description: https://datasheet.octopart.com:443/T530X337M010ATE004-KEMET-datasheet-137404858.pdf?src-supplier=Upverter; ComponentLink3URL: https://datasheet.octopart.com:443/T530X337M010ATE004-KEMET-datasheet-140124355.pdf?src-supplier=Farnell; ComponentLink3Description: https://datasheet.octopart.com:443/T530X337M010ATE004-KEMET-datasheet-140124355.pdf?src-supplier=Farnell; ComponentLink4URL: https://datasheet.octopart.com:443/T530X337M010ATE004-KEMET-datasheet-101579198.pdf?src-supplier=Farnell; ComponentLink4Description: https://datasheet.octopart.com:443/T530X337M010ATE004-KEMET-datasheet-101579198.pdf?src-supplier=Farnell; ComponentLink5URL: https://datasheet.octopart.com:443/T530X337M010ATE004-KEMET-datasheet-182017436.pdf?src-supplier=Farnell; ComponentLink5Description: https://datasheet.octopart.com:443/T530X337M010ATE004-KEMET-datasheet-182017436.pdf?src-supplier=Farnell; ComponentLink6URL: https://datasheet.octopart.com:443/T530X337M010ATE004-Kemet-datasheet-26568957.pdf?src-supplier=Newark; ComponentLink6Description: https://datasheet.octopart.com:443/T530X337M010ATE004-Kemet-datasheet-26568957.pdf?src-supplier=Newark; ComponentLink7URL: https://datasheet.octopart.com:443/T530X337M010ATE004-KEMET-datasheet-81638763.pdf?src-supplier=Newark; ComponentLink7Description: https://datasheet.octopart.com:443/T530X337M010ATE004-KEMET-datasheet-81638763.pdf?src-supplier=Newark; ComponentLink8URL: https://datasheet.octopart.com:443/T530X337M010ATE004-KEMET-datasheet-166081189.pdf?src-supplier=Newark; ComponentLink8Description: https://datasheet.octopart.com:443/T530X337M010ATE004-KEMET-datasheet-166081189.pdf?src-supplier=Newark; ComponentLink9URL: https://datasheet.octopart.com:443/T530X337M010ATE004-Kemet-datasheet-66325550.pdf?src-supplier=Newark; ComponentLink9Description: https://datasheet.octopart.com:443/T530X337M010ATE004-Kemet-datasheet-66325550.pdf?src-supplier=Newark; ComponentLink10URL: https://datasheet.octopart.com:443/T530X337M010ATE004-KEMET-datasheet-193588003.pdf?src-supplier=Newark; ComponentLink10Description: https://datasheet.octopart.com:443/T530X337M010ATE004-KEMET-datasheet-193588003.pdf?src-supplier=Newark; ComponentLink11URL: https://datasheet.octopart.com:443/T530X337M010ATE004-Kemet-datasheet-66533080.pdf?src-supplier=element14+APAC; ComponentLink11Description: https://datasheet.octopart.com:443/T530X337M010ATE004-Kemet-datasheet-66533080.pdf?src-supplier=element14+APAC; ComponentLink12URL: https://datasheet.octopart.com:443/T530X337M010ATE004-KEMET-datasheet-83562318.pdf?src-supplier=element14+APAC; ComponentLink12Description: https://datasheet.octopart.com:443/T530X337M010ATE004-KEMET-datasheet-83562318.pdf?src-supplier=element14+APAC; ComponentLink13URL: https://datasheet.octopart.com:443/T530X337M010ATE004-KEMET-datasheet-98355851.pdf?src-supplier=TME; ComponentLink13Description: https://datasheet.octopart.com:443/T530X337M010ATE004-KEMET-datasheet-98355851.pdf?src-supplier=TME; ComponentLink14URL: https://datasheet.octopart.com:443/T530X337M010ATE004-KEMET-datasheet-67697638.pdf?src-supplier=TME; ComponentLink14Description: https://datasheet.octopart.com:443/T530X337M010ATE004-KEMET-datasheet-67697638.pdf?src-supplier=TME; ComponentLink15URL: https://datasheet.octopart.com:443/T530X337M010ATE004-Kemet-datasheet-11837805.pdf?src-supplier=Arrow+Electronics; ComponentLink15Description: https://datasheet.octopart.com:443/T530X337M010ATE004-Kemet-datasheet-11837805.pdf?src-supplier=Arrow+Electronics; ComponentLink16URL: https://datasheet.octopart.com:443/T530X337M010ATE004-Kemet-datasheet-8047.pdf?src-supplier=RS+(Formerly+Allied+Electronics); ComponentLink16Description: https://datasheet.octopart.com:443/T530X337M010ATE004-Kemet-datasheet-8047.pdf?src-supplier=RS+(Formerly+Allied+Electronics)
pins: 1, 2